# Altium schematic symbol library TBP01R2W-508-02BE.SchLib: 1 symbol
Pins are listed as number, name and electrical type; pins without a type are passive.

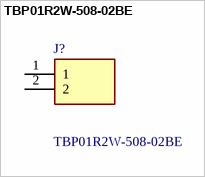
[diagram p0: symbol TBP01R2W-508-02BE]

## TBP01R2W-508-02BE
designator J?
TBP01R2W-508 Series - 2~24 Poles, Pluggable, Receptacle, Vertical 5.08 Pitch, Terminal Block Connector; Manufacturer_Name: Same Sky; Geometry.Height: 12.4mm; Mouser Part Number: 490-TBP01R2W-50802BE; Mouser Price/Stock: https://www.mouser.co.uk/ProductDetail/CUI-Devices/TBP01R2W-508-02BE?qs=PzGy0jfpSMv0R3n6%2FsgXSg%3D%3D; Manufacturer_Part_Number: TBP01R2W-508-02BE; Datasheet Link: https://www.sameskydevices.com/product/resource/tbp01r2w-508.pdf
footprint TBP01R2W50802BE
pins: 1, 2